# Altium footprint library memo.PcbLib: 50 footprints (part 4 of 4)
Each footprint in its own frame and in the unit in brackets; x right, y up, seen from the top. Pads: shape width x height; smd on the part's side, far side on the other; paste and mask are expansions set on the pad; w line width, h text height; cw(c..) or ccw(c..) is an arc to the next point about the centre after c.
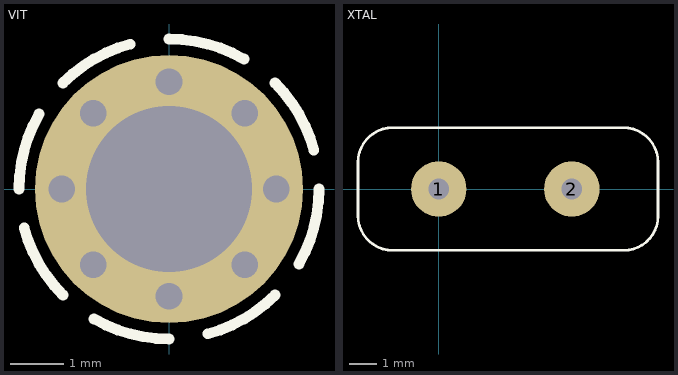
[diagram p3: the footprints below, top view; thin cyan lines are the x and y axes]

## VIT [mm]
pads (9):
  round 0.5 hole 0.5: ""(-2,0) ""(-1.414,-1.414) ""(-1.414,1.414) ""(0,-2) ""(0,2) ""(1.414,-1.414) ""(1.414,1.414) ""(2,0)
  round 5 hole 3.1: ""(0,0)
Top Overlay:
  lines w0.2: -2.8,0 cw(c0,0) -2.425,1.4 ; -2.705,-0.725 ccw(c0,0) -1.98,-1.98 ; -1.98,1.98 cw(c0,0) -0.725,2.705 ; -1.4,-2.425 ccw(c0,0) 0,-2.8 ; 0,2.8 cw(c0,0) 1.4,2.425 ; 0.725,-2.705 ccw(c0,0) 1.98,-1.98 ; 1.98,1.98 cw(c0,0) 2.705,0.725 ; 2.425,-1.4 ccw(c0,0) 2.8,0

## XTAL [mil]
pads (2):
  round 80 hole 30: 1(0,0) 2(192.13,0)
Top Overlay:
  lines w3.94: -116.54,-38.58 ccw(c-66.54,-38.58) -66.54,-88.58 267.32,-88.58 ccw(c267.32,-39.37) 316.54,-39.37 316.54,38.58 ccw(c266.54,38.58) 266.54,88.58 -47.64,88.58 -66.54,88.58 ccw(c-66.54,38.58) -116.54,38.58 -116.54,-29.53 -116.54,-38.58
3D body: height 519.68, standoff -78.74, extent -116.54,-88.58 316.54,88.58